# EAGLE library part TESSELMODULE (library tessel)
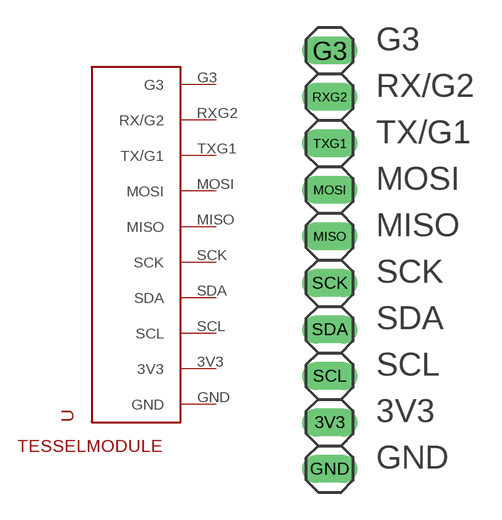
[diagram p0: symbol with the pads of TESSELMODULE; footprint TESSELMODULE]

Designator prefix -

## TESSELMODULE  [TESSELMODULE]
3V3  3V3
G3  G3
GND  GND
MISO  MISO
MOSI  MOSI
RXG2  RX/G2
SCK  SCK
SCL  SCL
SDA  SDA
TXG1  TX/G1

## Footprint TESSELMODULE (pad centres in mm)
Tessel 2 Module
drill 1.016 long: 3V3 0,2.54; G3 0,22.86; GND 0,0; MISO 0,12.7; MOSI 0,15.24; RXG2 0,20.32; SCK 0,10.16; SCL 0,5.08; SDA 0,7.62; TXG1 0,17.78